# Altium schematic symbol library CSNL2512FT5L00.SchLib: 1 symbol
Pins are listed as number, name and electrical type; pins without a type are passive.

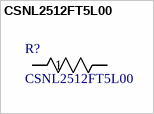
[diagram p0: symbol CSNL2512FT5L00]

## CSNL2512FT5L00
designator R?
No Description Available; Manufacturer_Name: Stackpole International; Copyright: Copyright (C) 2026 Ultra Librarian. All rights reserved.; Manufacturer_Part_Number: CSNL2512FT5L00
footprint STA_CSNL25125_STP
pins: 1, 2